# Altium schematic symbol library Telemetry.SchLib: 2 symbols
Pins are listed as number, name and electrical type; pins without a type are passive.

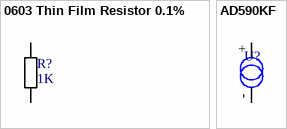
[diagram p0: symbols 0603 Thin Film Resistor 0.1% to AD590KF]

## 0603 Thin Film Resistor 0.1%
designator R?, comment value 1K  (hidden comment: 0603 Resistor)
0603 Thin Film Resistor 0.1%
footprint 0603 Resistor
pins: 1, 2

## AD590KF
designator U?  (value not drawn)
Temperature sensor IC
pins: +, -